# Altium footprint library J 接插件.PcbLib: 458 footprints (part 21 of 29)
Each footprint in its own frame and in the unit in brackets; x right, y up, seen from the top. Pads: shape width x height; smd on the part's side, far side on the other; paste and mask are expansions set on the pad; w line width, h text height; cw(c..) or ccw(c..) is an arc to the next point about the centre after c.
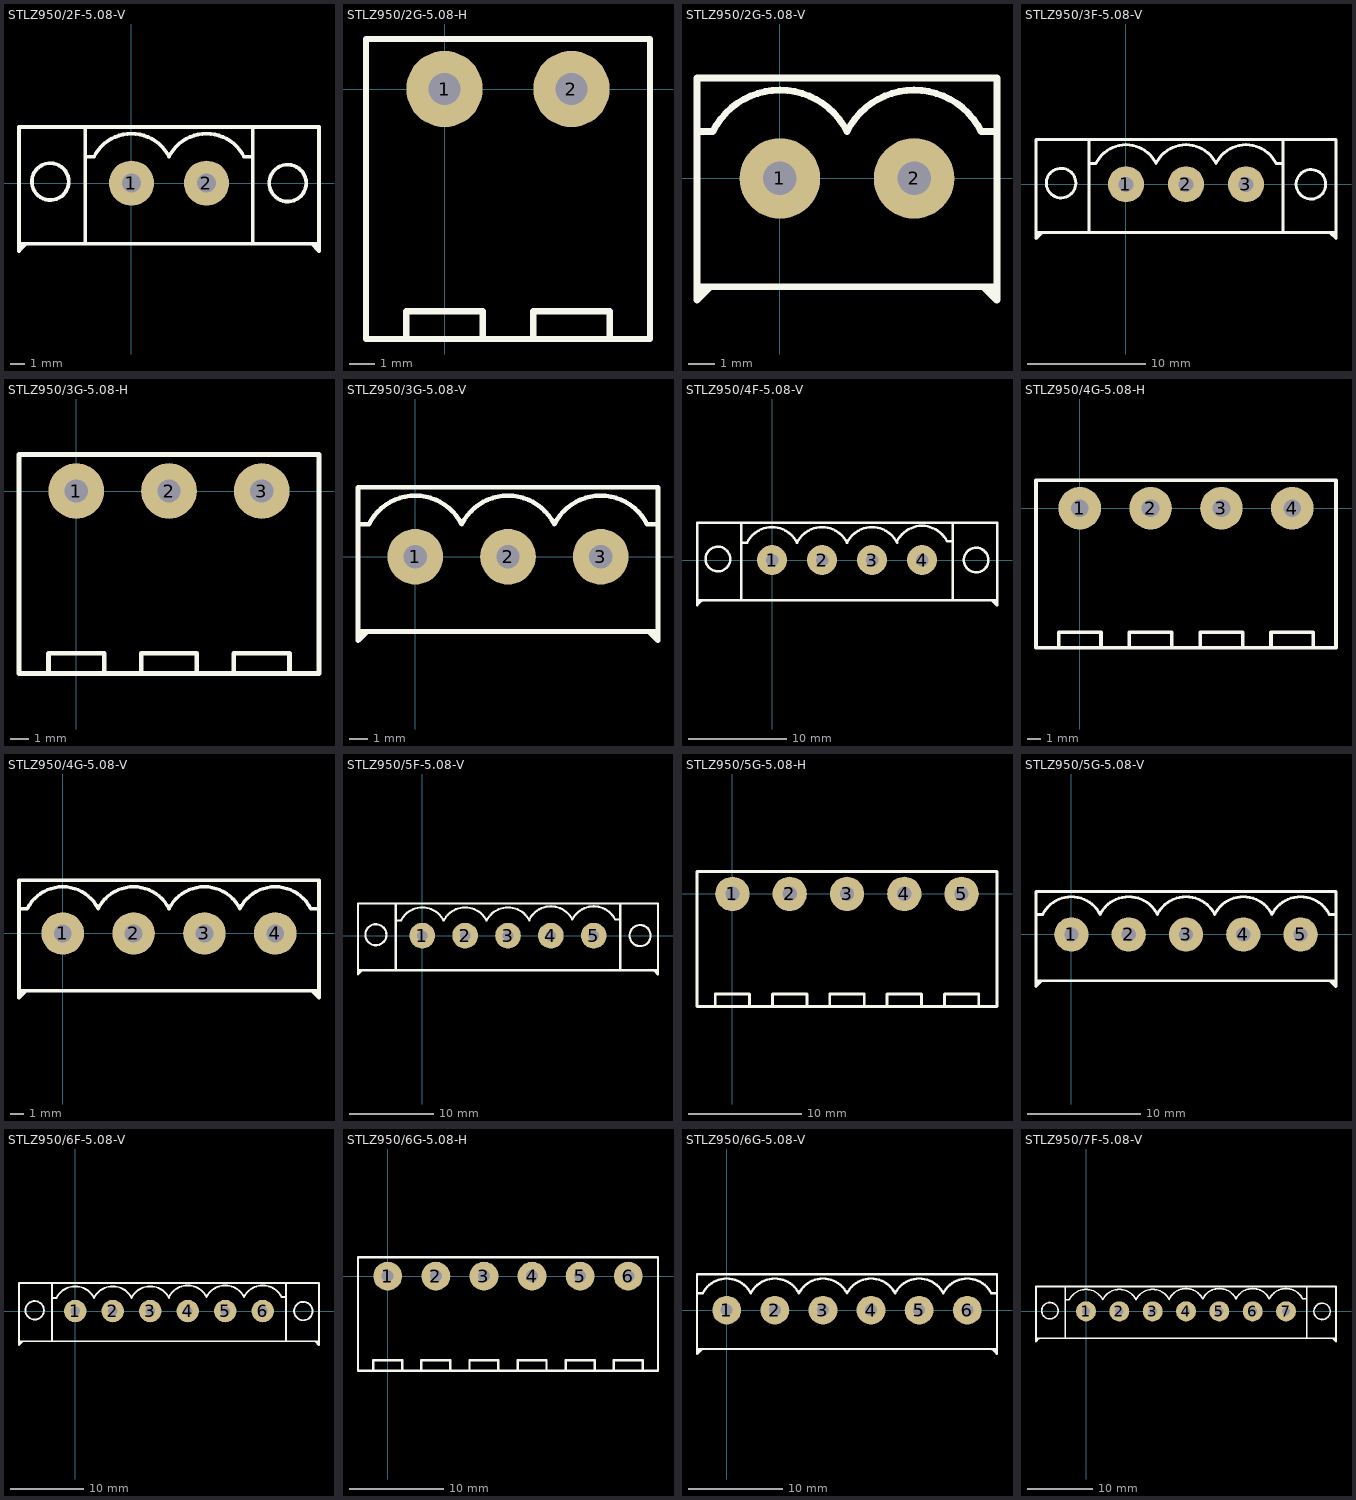
[diagram p20: the footprints below, top view; thin cyan lines are the x and y axes]

## STLZ950/2F-5.08-V [mil] "美卡诺 STLZ950 接触件座  间距：5.08   2Pin  带螺丝"
height 826.77
pads (2):
  round 120 hole 50: 1(0,0) 2(200,0)
Top Overlay:
  circle w10: c-216.54,3.94 r49.21
  circle w10: c416.54,0 r49.21
  lines w10: -300,-181.1 -300,149.61 500,149.61 500,-181.1 480.81,-161.91 ; -300,-161.42 500,-161.42 ; -299.21,-180.12 -281.99,-162.89 ; -293.31,-172.24 -293.31,-164.37 ; -123.62,-161.42 -123.62,149.61 ; -120,70 -100,70 cw(c0,20) 100,70 cw(c200,20) 300,70 320,70 ; 323.62,-161.42 323.62,149.61 ; 495.08,-171.26 495.08,-162.4

## STLZ950/2G-5.08-H [mil] "美卡诺 STLZ950接触件座  间距：5.08  2Pin   弯角"
height 330.71
pads (2):
  round 120 hole 50: 1(0,0) 2(200,0)
Top Overlay:
  lines w10: -60,-390 -60,-350 60,-350 60,-390 ; 140,-390 140,-350 260,-350 260,-390 ; -123.62,-393.7 -123.62,78.74 323.62,78.74 323.62,-393.7 -123.62,-393.7

## STLZ950/2G-5.08-V [mil] "美卡诺 STLZ950 接触件座  间距：5.08   2Pin"
height 826.77
pads (2):
  round 120 hole 50: 1(0,0) 2(200,0)
Top Overlay:
  lines w10: -123.62,-181.1 -123.62,149.61 323.62,149.61 323.62,-181.1 ; -123.62,-161.42 323.62,-161.42 ; -122.05,-180.12 -104.82,-162.89 ; -120,70 -100,70 cw(c0,20) 100,70 cw(c200,20) 300,70 320,70 ; -116.14,-172.24 -116.14,-164.37 ; 303.64,-161.91 322.83,-181.1 ; 317.91,-171.26 317.91,-162.4

## STLZ950/3F-5.08-V [mil] "美卡诺 STLZ950 接触件座  间距：5.08   3Pin  带螺丝"
height 826.77
pads (3):
  round 120 hole 50: 1(0,0) 2(200,0) 3(400,0)
Top Overlay:
  circle w10: c-216.54,3.94 r49.21
  circle w10: c616.54,0 r49.21
  lines w10: -300,-181.1 -300,149.61 700,149.61 700,-181.1 680.81,-161.91 ; -300,-161.42 700,-161.42 ; -299.21,-180.12 -281.99,-162.89 ; -293.31,-172.24 -293.31,-164.37 ; -123.62,-161.42 -123.62,149.61 ; -120,70 -100,70 cw(c0,20) 100,70 cw(c200,20) 300,70 cw(c400,20) 500,70 520,70 ; 523.62,-161.42 523.62,149.61 ; 695.08,-171.26 695.08,-162.4

## STLZ950/3G-5.08-H [mil] "美卡诺 STLZ950接触件座  间距：5.08  3Pin   弯角"
height 330.71
pads (3):
  round 120 hole 50: 1(0,0) 2(200,0) 3(400,0)
Top Overlay:
  lines w10: -60,-390 -60,-350 60,-350 60,-390 ; 140,-390 140,-350 260,-350 260,-390 ; 340,-390 340,-350 460,-350 460,-390 ; -123.62,-393.7 -123.62,78.74 523.62,78.74 523.62,-393.7 -123.62,-393.7

## STLZ950/3G-5.08-V [mil] "美卡诺 STLZ950 接触件座  间距：5.08   3Pin"
height 826.77
pads (3):
  round 120 hole 50: 1(0,0) 2(200,0) 3(400,0)
Top Overlay:
  lines w10: -123.62,-181.1 -123.62,149.61 523.62,149.61 523.62,-181.1 ; -123.62,-161.42 523.62,-161.42 ; -122.05,-180.12 -104.82,-162.89 ; -120,70 -100,70 cw(c0,20) 100,70 cw(c200,20) 300,70 cw(c400,20) 500,70 520,70 ; -116.14,-172.24 -116.14,-164.37 ; 503.64,-161.91 522.83,-181.1 ; 517.91,-171.26 517.91,-162.4

## STLZ950/4F-5.08-V [mil] "美卡诺 STLZ950 接触件座  间距：5.08   4Pin  带螺丝"
height 826.77
pads (4):
  round 120 hole 50: 1(0,0) 2(200,0) 3(400,0) 4(600,0)
Top Overlay:
  circle w10: c-216.54,3.94 r49.21
  circle w10: c816.54,0 r49.21
  lines w10: -300,-181.1 -300,149.61 900,149.61 900,-181.1 ; -300,-161.42 900,-161.42 ; -299.21,-180.12 -281.99,-162.89 ; -293.31,-172.24 -293.31,-164.37 ; -123.62,-161.42 -123.62,149.61 ; -120,70 -100,70 cw(c0,20) 100,70 cw(c200,20) 300,70 cw(c400,20) 500,70 ; 500,75 cw(c600,25) 700,75 720,75 ; 723.62,-161.42 723.62,149.61 ; 882,-164 899.22,-181.22 ; 890,-165 897.87,-165

## STLZ950/4G-5.08-H [mil] "美卡诺 STLZ950接触件座  间距：5.08  4Pin   弯角"
height 330.71
pads (4):
  round 120 hole 50: 1(0,0) 2(200,0) 3(400,0) 4(600,0)
Top Overlay:
  lines w10: -60,-390 -60,-350 60,-350 60,-390 ; 140,-390 140,-350 260,-350 260,-390 ; 340,-390 340,-350 460,-350 460,-390 ; 540,-390 540,-350 660,-350 660,-390 ; -123.62,-393.7 -123.62,78.74 723.62,78.74 723.62,-393.7 -123.62,-393.7

## STLZ950/4G-5.08-V [mil] "美卡诺 STLZ950 接触件座  间距：5.08   4Pin"
height 826.77
pads (4):
  round 120 hole 50: 1(0,0) 2(200,0) 3(400,0) 4(600,0)
Top Overlay:
  lines w10: -123.62,-181.1 -123.62,149.61 723.62,149.61 723.62,-181.1 ; -123.62,-161.42 723.62,-161.42 ; -122.05,-180.12 -104.82,-162.89 ; -120,70 -100,70 cw(c0,20) 100,70 cw(c200,20) 300,70 cw(c400,20) 500,70 cw(c600,20) 700,70 720,70 ; -116.14,-172.24 -116.14,-164.37 ; 703.64,-161.91 722.83,-181.1 ; 717.91,-171.26 717.91,-162.4

## STLZ950/5F-5.08-V [mil] "美卡诺 STLZ950 接触件座  间距：5.08   5Pin  带螺丝"
height 826.77
pads (5):
  round 120 hole 50: 1(0,0) 2(200,0) 3(400,0) 4(600,0) 5(800,0)
Top Overlay:
  circle w10: c1016.54,0 r49.21
  circle w10: c-216.54,3.94 r49.21
  lines w10: -300,-181.1 -300,149.61 1100,149.61 1100,-181.1 ; -300,-161.42 1100,-161.42 ; -299.21,-180.12 -281.99,-162.89 ; -293.31,-172.24 -293.31,-164.37 ; -123.62,-161.42 -123.62,149.61 ; -120,70 -100,70 cw(c0,20) 100,70 cw(c200,20) 300,70 cw(c400,20) 500,70 ; 500,75 cw(c600,25) 700,75 cw(c800,25) 900,75 920,75 ; 923.62,-161.42 923.62,149.61 ; 1082,-164 1099.22,-181.22 ; 1090,-165 1097.87,-165

## STLZ950/5G-5.08-H [mil] "美卡诺 STLZ950接触件座  间距：5.08  5Pin   弯角"
height 330.71
pads (5):
  round 120 hole 50: 1(0,0) 2(200,0) 3(400,0) 4(600,0) 5(800,0)
Top Overlay:
  lines w10: -60,-390 -60,-350 60,-350 60,-390 ; 140,-390 140,-350 260,-350 260,-390 ; 340,-390 340,-350 460,-350 460,-390 ; 540,-390 540,-350 660,-350 660,-390 ; 740,-390 740,-350 860,-350 860,-390 ; -123.62,-393.7 -123.62,78.74 923.62,78.74 923.62,-393.7 -123.62,-393.7

## STLZ950/5G-5.08-V [mil] "美卡诺 STLZ950 接触件座  间距：5.08   5Pin"
height 826.77
pads (5):
  round 120 hole 50: 1(0,0) 2(200,0) 3(400,0) 4(600,0) 5(800,0)
Top Overlay:
  lines w10: -123.62,-181.1 -123.62,149.61 923.62,149.61 923.62,-181.1 ; -123.62,-161.42 923.62,-161.42 ; -122.05,-180.12 -104.82,-162.89 ; -120,70 -100,70 cw(c0,20) 100,70 cw(c200,20) 300,70 cw(c400,20) 500,70 cw(c600,20) 700,70 cw(c800,20) 900,70 920,70 ; -116.14,-172.24 -116.14,-164.37 ; 903.64,-161.91 922.83,-181.1 ; 917.91,-171.26 917.91,-162.4

## STLZ950/6F-5.08-V [mil] "美卡诺 STLZ950 接触件座  间距：5.08   6Pin  带螺丝"
height 826.77
pads (6):
  round 120 hole 50: 1(0,0) 2(200,0) 3(400,0) 4(600,0) 5(800,0) 6(1000,0)
Top Overlay:
  circle w10: c1216.54,0 r49.21
  circle w10: c-216.54,3.94 r49.21
  lines w10: -300,-181.1 -300,149.61 1300,149.61 1300,-181.1 ; -300,-161.42 1300,-161.42 ; -299.21,-180.12 -281.99,-162.89 ; -293.31,-172.24 -293.31,-164.37 ; -123.62,-161.42 -123.62,149.61 ; -120,70 -100,70 cw(c0,20) 100,70 cw(c200,20) 300,70 cw(c400,20) 500,70 ; 500,75 cw(c600,25) 700,75 cw(c800,25) 900,75 cw(c1000,25) 1100,75 1120,75 ; 1123.62,-161.42 1123.62,149.61 ; 1282,-164 1299.22,-181.22 ; 1290,-165 1297.87,-165

## STLZ950/6G-5.08-H [mil] "美卡诺 STLZ950接触件座  间距：5.08  6Pin   弯角"
height 330.71
pads (6):
  round 120 hole 50: 1(0,0) 2(200,0) 3(400,0) 4(600,0) 5(800,0) 6(1000,0)
Top Overlay:
  lines w10: -60,-390 -60,-350 60,-350 60,-390 ; 140,-390 140,-350 260,-350 260,-390 ; 340,-390 340,-350 460,-350 460,-390 ; 540,-390 540,-350 660,-350 660,-390 ; 740,-390 740,-350 860,-350 860,-390 ; 940,-390 940,-350 1060,-350 1060,-390 ; -123.62,-393.7 1123.62,-393.7 1123.62,78.74 -123.62,78.74 -123.62,-393.7

## STLZ950/6G-5.08-V [mil] "美卡诺 STLZ950 接触件座  间距：5.08   6Pin"
height 826.77
pads (6):
  round 120 hole 50: 1(0,0) 2(200,0) 3(400,0) 4(600,0) 5(800,0) 6(1000,0)
Top Overlay:
  lines w10: -123.62,-181.1 -123.62,149.61 1123.62,149.61 1123.62,-181.1 ; -123.62,-161.42 1123.62,-161.42 ; -122.05,-180.12 -104.82,-162.89 ; -120,70 -100,70 cw(c0,20) 100,70 cw(c200,20) 300,70 cw(c400,20) 500,70 cw(c600,20) 700,70 cw(c800,20) 900,70 cw(c1000,20) 1100,70 1120,70 ; -116.14,-172.24 -116.14,-164.37 ; 1103.64,-161.91 1122.83,-181.1 ; 1117.91,-171.26 1117.91,-162.4

## STLZ950/7F-5.08-V [mil] "美卡诺 STLZ950 接触件座  间距：5.08   7Pin  带螺丝"
height 826.77
pads (7):
  round 120 hole 50: 1(0,0) 2(200,0) 3(400,0) 4(600,0) 5(800,0) 6(1000,0) 7(1200,0)
Top Overlay:
  circle w10: c1416.54,0 r49.21
  circle w10: c-216.54,3.94 r49.21
  lines w10: -300,-181.1 -300,149.61 1500,149.61 1500,-181.1 ; -300,-161.42 1500,-161.42 ; -299.21,-180.12 -281.99,-162.89 ; -293.31,-172.24 -293.31,-164.37 ; -123.62,-161.42 -123.62,149.61 ; -120,70 -100,70 cw(c0,20) 100,70 cw(c200,20) 300,70 cw(c400,20) 500,70 ; 500,75 cw(c600,25) 700,75 cw(c800,25) 900,75 cw(c1000,25) 1100,75 cw(c1200,25) 1300,75 1320,75 ; 1323.62,-161.42 1323.62,149.61 ; 1482,-164 1499.22,-181.22 ; 1490,-165 1497.87,-165